# Altium footprint library 5023520510.PcbLib: 1 footprints
Each footprint in its own frame and in the unit in brackets; x right, y up, seen from the top. Pads: shape width x height; smd on the part's side, far side on the other; paste and mask are expansions set on the pad; w line width, h text height; cw(c..) or ccw(c..) is an arc to the next point about the centre after c.
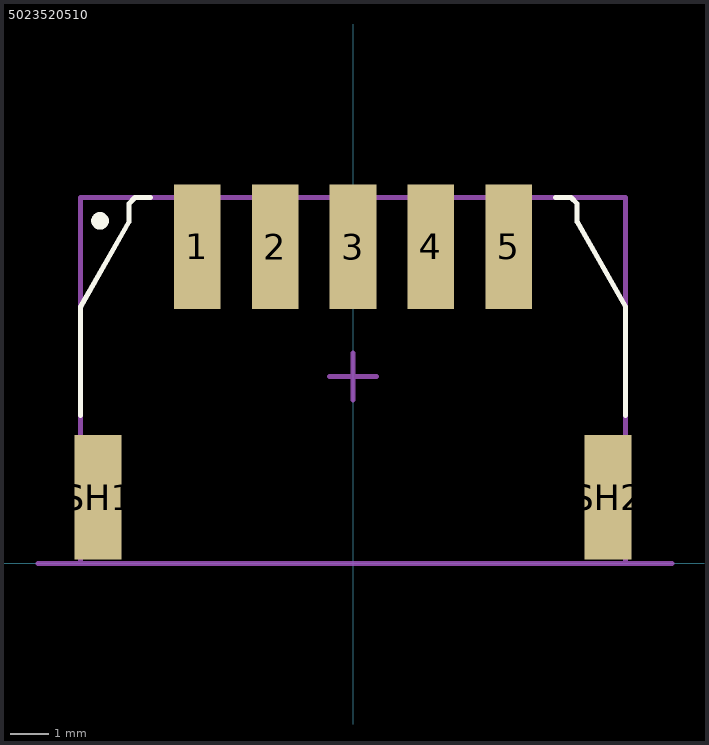
[diagram p0: the footprint, top view; thin cyan lines are the x and y axes]

## 5023520510 [mm]
height 6.4
pads (7):
  rect 1.2x3.2 smd mask+0: 1(-4,8.13) 2(-2,8.13) 3(0,8.13) 4(2,8.13) 5(4,8.13) SH1(-6.55,1.7) SH2(6.55,1.7)
Top Overlay:
  circle w0.254: c-6.5,8.8 r0.1
  lines w0.127: -7,3.8 -7,6.6 -5.757,8.775 -5.757,9.243 -5.6,9.4 -5.2,9.4 ; 5.2,9.4 5.6,9.4 5.757,9.243 5.757,8.775 7,6.6 7,3.8
Mechanical 7:
  lines w0.127: -8.1,0 8.2,0
Mechanical 13:
  lines w0.127: -7,0 -7,9.4 7,9.4 7,0 -7,0
Mechanical 15:
  lines w0.127: 0,4.2 0,5.4 ; 0.6,4.8 0,4.8 ; 0,4.8 -0.6,4.8 0,4.8
3D body "5023520510.stp": height 6.46, standoff 0.06, extent -7,0 7,9.4